# Altium footprint library SOP65P810X110-32N.PcbLib: 1 footprints
Each footprint in its own frame and in the unit in brackets; x right, y up, seen from the top. Pads: shape width x height; smd on the part's side, far side on the other; paste and mask are expansions set on the pad; w line width, h text height; cw(c..) or ccw(c..) is an arc to the next point about the centre after c.
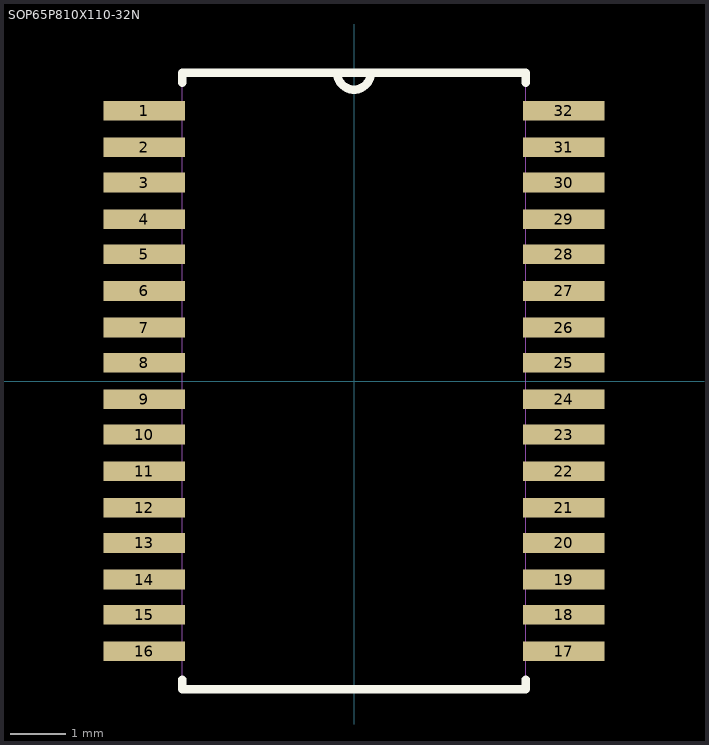
[diagram p0: the footprint, top view; thin cyan lines are the x and y axes]

## SOP65P810X110-32N [mil]
pads (32):
  rect 58x14 smd: 1(-149,192) 2(-149,166) 3(-149,141) 4(-149,115) 5(-149,90) 6(-149,64) 7(-149,38) 8(-149,13) 9(-149,-13) 10(-149,-38) 11(-149,-64) 12(-149,-90) 13(-149,-115) 14(-149,-141) 15(-149,-166) 16(-149,-192) 17(149,-192) 18(149,-166) 19(149,-141) 20(149,-115) 21(149,-90) 22(149,-64) 23(149,-38) 24(149,-13) 25(149,13) 26(149,38) 27(149,64) 28(149,90) 29(149,115) 30(149,141) 31(149,166) 32(149,192)
Top Overlay:
  lines w6: -122,-212 -122,-219 122,-219 122,-212 ; -122,212 -122,219 -12,219 ; 122,212 122,219 12,219 ; -12,219 ccw(c0,219) 12,219 ; -12,219 12,219
Mechanical 13:
  lines w0: -12,219 ccw(c0,219) 12,219 ; -12,219 12,219 ; -12,219 -122,219 -122,-219 122,-219 122,219 12,219 ; -163,-198 -163,-186 -122,-186 -122,-198 -163,-198 ; -163,-172 -163,-160 -122,-160 -122,-172 -163,-172 ; -163,-147 -163,-135 -122,-135 -122,-147 -163,-147 ; -163,-121 -163,-109 -122,-109 -122,-121 -163,-121 ; -163,-95 -163,-84 -122,-84 -122,-95 -163,-95 ; -163,-70 -163,-58 -122,-58 -122,-70 -163,-70 ; -163,-44 -163,-32 -122,-32 -122,-44 -163,-44 ; -163,-19 -163,-7 -122,-7 -122,-19 -163,-19 ; -163,7 -163,19 -122,19 -122,7 -163,7 ; -163,32 -163,44 -122,44 -122,32 -163,32 ; -163,58 -163,70 -122,70 -122,58 -163,58 ; -163,84 -163,95 -122,95 -122,84 -163,84 ; -163,109 -163,121 -122,121 -122,109 -163,109 ; -163,135 -163,147 -122,147 -122,135 -163,135 ; -163,160 -163,172 -122,172 -122,160 -163,160 ; -163,186 -163,198 -122,198 -122,186 -163,186 ; 122,-198 122,-186 163,-186 163,-198 122,-198 ; 122,-172 122,-160 163,-160 163,-172 122,-172 ; 122,-147 122,-135 163,-135 163,-147 122,-147 ; 122,-121 122,-109 163,-109 163,-121 122,-121 ; 122,-95 122,-84 163,-84 163,-95 122,-95 ; 122,-70 122,-58 163,-58 163,-70 122,-70 ; 122,-44 122,-32 163,-32 163,-44 122,-44 ; 122,-19 122,-7 163,-7 163,-19 122,-19 ; 122,7 122,19 163,19 163,7 122,7 ; 122,32 122,44 163,44 163,32 122,32 ; 122,58 122,70 163,70 163,58 122,58 ; 122,84 122,95 163,95 163,84 122,84 ; 122,109 122,121 163,121 163,109 122,109 ; 122,135 122,147 163,147 163,135 122,135 ; 122,160 122,172 163,172 163,160 122,160 ; 122,186 122,198 163,198 163,186 122,186